# Altium footprint library PCB-Components.PcbLib: 3 footprints
Each footprint in its own frame and in the unit in brackets; x right, y up, seen from the top. Pads: shape width x height; smd on the part's side, far side on the other; paste and mask are expansions set on the pad; w line width, h text height; cw(c..) or ccw(c..) is an arc to the next point about the centre after c.
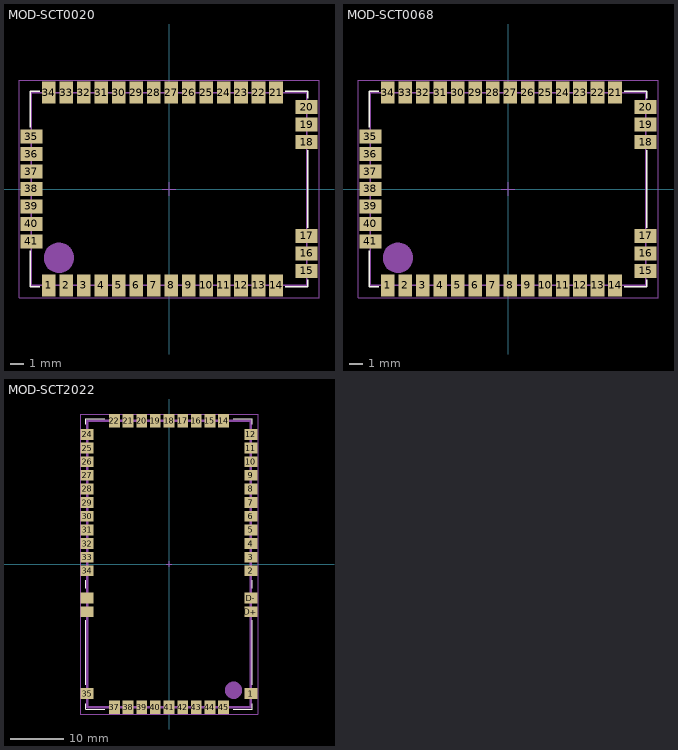
[diagram p0: the footprints below, top view; thin cyan lines are the x and y axes]

## MOD-SCT0020 [mm] "14mm x 20mm"
height 2.491
pads (41):
  rect 1x1.6 smd mask-0.05: 1(-8.73,-7) 2(-7.46,-7) 3(-6.19,-7) 4(-4.92,-7) 5(-3.65,-7) 6(-2.38,-7) 7(-1.11,-7) 8(0.16,-7) 9(1.43,-7) 10(2.7,-7) 11(3.97,-7) 12(5.24,-7) 13(6.51,-7) 14(7.78,-7) 21(7.78,7) 22(6.51,7) 23(5.24,7) 24(3.97,7) 25(2.7,7) 26(1.43,7) 27(0.16,7) 28(-1.11,7) 29(-2.38,7) 30(-3.65,7) 31(-4.92,7) 32(-6.19,7) 33(-7.46,7) 34(-8.73,7)
  rect 1.6x1 smd mask-0.05: 15(10,-5.95) 16(10,-4.68) 17(10,-3.41) 18(10,3.41) 19(10,4.68) 20(10,5.95) 35(-10,3.81) 36(-10,2.54) 37(-10,1.27) 38(-10,0) 39(-10,-1.27) 40(-10,-2.54) 41(-10,-3.81)
Top Overlay:
  lines w0.1: -10.1,-4.5 -10.1,-7.1 -9.4,-7.1 ; -10.1,4.5 -10.1,7.1 -9.4,7.1 ; 8.45,-7.1 10.1,-7.1 10.1,-6.6 ; 8.45,7.1 10.1,7.1 10.1,6.6 ; 10.1,-2.8 10.1,2.8
Mechanical 13:
  lines w0.1: -10,7 -10,-7 10,-7 10,7 -10,7 ; -10,7 -10,7
Mechanical 15:
  lines w0.05: -0.5,0 0.5,0 ; 0,-0.5 0,0.5 ; -10.9,-7.9 -10.9,7.9 10.9,7.9 10.9,-7.9 -10.9,-7.9
Mechanical 16:
  circle w1.2: c-8,-5 r0.5
  lines w0.1: -10,7 10,7 10,-7 -10,-7 -10,7 ; -10,7 -10,7
  text ".Designator" at 0,0 h4
3D body "PCB.step": height 2.5, standoff 0.01, extent -10,-7 10,7

## MOD-SCT0068 [mm] "14mm x 20mm"
height 1.991
pads (41):
  rect 1x1.6 smd mask-0.05: 1(-8.73,-7) 2(-7.46,-7) 3(-6.19,-7) 4(-4.92,-7) 5(-3.65,-7) 6(-2.38,-7) 7(-1.11,-7) 8(0.16,-7) 9(1.43,-7) 10(2.7,-7) 11(3.97,-7) 12(5.24,-7) 13(6.51,-7) 14(7.78,-7) 21(7.78,7) 22(6.51,7) 23(5.24,7) 24(3.97,7) 25(2.7,7) 26(1.43,7) 27(0.16,7) 28(-1.11,7) 29(-2.38,7) 30(-3.65,7) 31(-4.92,7) 32(-6.19,7) 33(-7.46,7) 34(-8.73,7)
  rect 1.6x1 smd mask-0.05: 15(10,-5.95) 16(10,-4.68) 17(10,-3.41) 18(10,3.41) 19(10,4.68) 20(10,5.95) 35(-10,3.81) 36(-10,2.54) 37(-10,1.27) 38(-10,0) 39(-10,-1.27) 40(-10,-2.54) 41(-10,-3.81)
Top Overlay:
  lines w0.1: -10.1,-4.5 -10.1,-7.1 -9.4,-7.1 ; -10.1,4.5 -10.1,7.1 -9.4,7.1 ; 8.45,-7.1 10.1,-7.1 10.1,-6.6 ; 8.45,7.1 10.1,7.1 10.1,6.6 ; 10.1,-2.8 10.1,2.8
Mechanical 13:
  lines w0.1: -10,7 -10,-7 10,-7 10,7 -10,7 ; -10,7 -10,7
Mechanical 15:
  lines w0.05: -0.5,0 0.5,0 ; 0,-0.5 0,0.5 ; -10.9,-7.9 -10.9,7.9 10.9,7.9 10.9,-7.9 -10.9,-7.9
Mechanical 16:
  circle w1.2: c-8,-5 r0.5
  lines w0.1: -10,7 10,7 10,-7 -10,-7 -10,7 ; -10,7 -10,7
  text ".Designator" at 0,0 h4
3D body "PCB-0068.x_t": height 1.99, standoff 0, extent -10,-7 10,7

## MOD-SCT2022 [mm] "53.34mm x 30.48mm"
height 3.35
pads (46):
  rect 2.45x2 smd mask-0.1: 1(15.24,-24.13) 2(15.24,-1.27) 3(15.24,1.27) 4(15.24,3.81) 5(15.24,6.35) 6(15.24,8.89) 7(15.24,11.43) 8(15.24,13.97) 9(15.24,16.51) 10(15.24,19.05) 11(15.24,21.59) 12(15.24,24.13) 24(-15.24,24.13) 25(-15.24,21.59) 26(-15.24,19.05) 27(-15.24,16.51) 28(-15.24,13.97) 29(-15.24,11.43) 30(-15.24,8.89) 31(-15.24,6.35) 32(-15.24,3.81) 33(-15.24,1.27) 34(-15.24,-1.27) 35(-15.24,-24.13) D+(15.24,-8.89) D-(15.24,-6.35) GND_PA(-15.24,-8.89) VCC_PA(-15.24,-6.35)
  rect 2x2.45 smd mask-0.1: 14(10.16,26.67) 15(7.62,26.67) 16(5.08,26.67) 17(2.54,26.67) 18(0,26.67) 19(-2.54,26.67) 20(-5.08,26.67) 21(-7.62,26.67) 22(-10.16,26.67) 37(-10.16,-26.67) 38(-7.62,-26.67) 39(-5.08,-26.67) 40(-2.54,-26.67) 41(0,-26.67) 42(2.54,-26.67) 43(5.08,-26.67) 44(7.62,-26.67) 45(10.16,-26.67)
Top Overlay:
  lines w0.2: -15.5,-26 -15.5,-27 -12,-27 ; -15.5,-22.5 -15.5,-10.5 ; -15.5,-4.5 -15.5,-3 ; -15.5,26 -15.5,27 -12,27 ; 12,-27 15.5,-27 15.5,-26 ; 12,27 15.5,27 15.5,26 ; 15.5,-22.5 15.5,-10.5 ; 15.5,-4.5 15.5,-3
Mechanical 13:
  lines w0.1: -15.24,-26.67 15.24,-26.67 15.24,26.67 -15.24,26.67 -15.24,-26.67
Mechanical 15:
  lines w0.05: -0.5,0 0.5,0 ; 0,-0.5 0,0.5 ; -16.5,-27.925 16.5,-27.925 16.5,27.925 -16.5,27.925 -16.5,-27.925
Mechanical 16:
  circle w2: c12,-23.5 r0.6
  lines w0.5: -15.24,-26.67 -15.24,26.67 15.24,26.67 15.24,-26.67 -15.24,-26.67
  text ".Designator" at 0,0 h4
3D body "PCB-0022.x_t": height 7.56, standoff 0, extent -15.24,-26.67 15.24,26.67